# EAGLE library part TPIC6B595 (library MINE)
8-bit SHIFT REGISTER, output latch
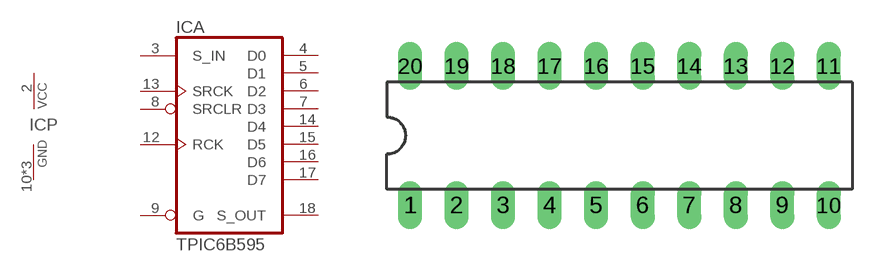
[diagram p2: symbol with the pads of DIL20; footprint DIL20]

Designator prefix IC; gates A=74595 P=PWRN

## TPIC6B595N  [DIL20]
2  P:VCC  pwr
3  A:S_IN  in
4  A:D0  hiz
5  A:D1  hiz
6  A:D2  hiz
7  A:D3  hiz
8  A:SRCLR  in
9  A:G  in
10  P:GND  pwr
11  P:GND  pwr
12  A:RCK  in
13  A:SRCK  in
14  A:D4  hiz
15  A:D5  hiz
16  A:D6  hiz
17  A:D7  hiz
18  A:S_OUT  hiz
19  P:GND  pwr

## Footprint DIL20 (pad centres in mm)
Dual In Line Package
drill 0.813 long: 1 -11.43,-3.81; 2 -8.89,-3.81; 3 -6.35,-3.81; 4 -3.81,-3.81; 5 -1.27,-3.81; 6 1.27,-3.81; 7 3.81,-3.81; 8 6.35,-3.81; 9 8.89,-3.81; 10 11.43,-3.81; 11 11.43,3.81; 12 8.89,3.81; 13 6.35,3.81; 14 3.81,3.81; 15 1.27,3.81; 16 -1.27,3.81; 17 -3.81,3.81; 18 -6.35,3.81; 19 -8.89,3.81; 20 -11.43,3.81